# Altium footprint library Resistor.PcbLib: 4 footprints
Each footprint in its own frame and in the unit in brackets; x right, y up, seen from the top. Pads: shape width x height; smd on the part's side, far side on the other; paste and mask are expansions set on the pad; w line width, h text height; cw(c..) or ccw(c..) is an arc to the next point about the centre after c.
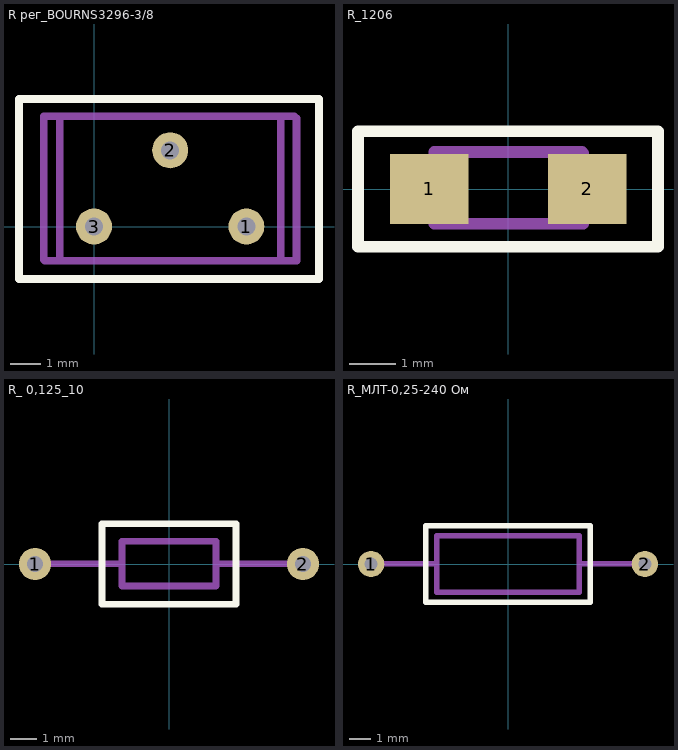
[diagram p0: the footprints below, top view; thin cyan lines are the x and y axes]

## R рег_BOURNS3296-3/8 [mm]
pads (3):
  round 1.2 hole 0.6: 1(5.08,0) 2(2.54,2.54) 3(0,0)
Top Overlay:
  lines w0.254: -2.5,-1.75 7.5,-1.75 7.5,4.25 -2.5,4.25 -2.5,-1.75
Mechanical 1:
  lines w0.254: -1.68,-1.1 -1.68,3.68 -1.14,3.68 ; -1.64,-1.14 -1.14,-1.14 ; 6.68,3.68 6.22,3.68 ; 6.75,3.61 6.75,-1.14 6.22,-1.14 ; -1.14,-1.14 6.22,-1.14 ; -1.14,-1.14 -1.14,3.68 ; -1.14,3.68 6.22,3.68 ; 6.22,-1.14 6.22,3.68

## R_1206 [mm]
pads (2):
  rect 1.7x1.52 smd: 1(-1.715,0) 2(1.715,0)
Top Overlay:
  lines w0.254: -3.255,-1.25 -3.255,1.25 3.245,1.25 3.245,-1.25 -3.255,-1.25
Mechanical 1:
  lines w0.254: 1.6,0.8 -1.6,0.8 -1.6,-0.75 1.625,-0.75 1.625,0.775

## R_ 0,125_10 [mm]
pads (2):
  round 1.2 hole 0.6: 1(-5,0) 2(5,0)
Top Overlay:
  lines w0.254: -2.5,-1.5 2.5,-1.5 2.5,1.5 -2.5,1.5 -2.5,-1.5
Mechanical 1:
  lines w0.254: -4.988,0.012 -1.75,0.012 ; 1.75,0.013 4.987,0.013 ; -1.75,-0.825 -1.75,0.85 0.3,0.85 1.75,0.85 1.75,-0.825 -1.75,-0.825

## R_МЛТ-0,25-240 Ом [mm]
pads (2):
  round 1.2 hole 0.6: 1(-6.25,0) 2(6.25,0)
Top Overlay:
  lines w0.254: -3.75,-1.75 3.75,-1.75 3.75,1.75 -3.75,1.75 -3.75,-1.75
Mechanical 1:
  lines w0.254: -6.25,0.012 -3.25,0.012 ; 3.25,0.013 6.25,0.013 ; -3.25,-1.3 -3.25,1.3 3.25,1.3 3.25,-1.3 -3.25,-1.3